# Altium schematic symbol library TPS62153RGTR.SchLib: 1 symbol
Pins are listed as number, name and electrical type; pins without a type are passive.

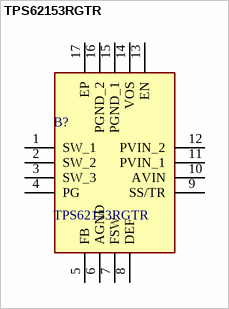
[diagram p0: symbol TPS62153RGTR]

## TPS62153RGTR
designator B?
317V 1A Step-Down Converter in 3x3 QFN package; Manufacturer_Name: Texas Instruments; Geometry.Height: 1mm; Mouser Part Number: 595-TPS62153RGTR; Mouser Price/Stock: https://www.mouser.co.uk/ProductDetail/Texas-Instruments/TPS62153RGTR?qs=gXEV9p%2FxLgf6PfFn0Q2piA%3D%3D; Manufacturer_Part_Number: TPS62153RGTR; Datasheet Link: http://www.ti.com/lit/gpn/TPS62153
footprint QFN50P300X300X100-17N-D
pins: 1 SW_1, 2 SW_2, 3 SW_3, 4 PG, 5 FB, 6 AGND, 7 FSW, 8 DEF, 9 SS/TR, 10 AVIN, 11 PVIN_1, 12 PVIN_2, 13 EN, 14 VOS, 15 PGND_1, 16 PGND_2, 17 EP